# EAGLE library part 74LS14 (library sj_ic)
74LS14 Hex Schmitt-Trigger Inverters
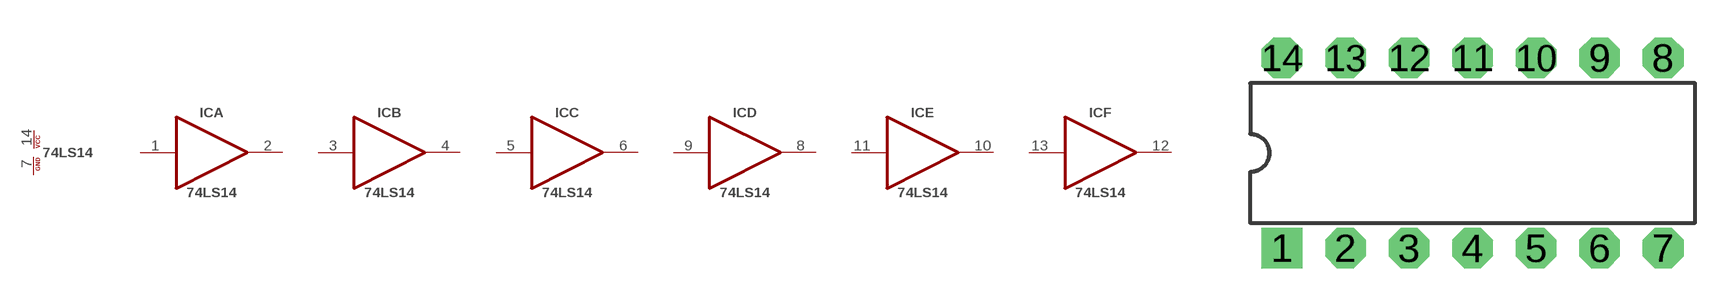
[diagram p10: symbol with the pads of DIP14; footprint DIP14]

Designator prefix IC; gates P=POWER A=GATE C=GATE E=GATE B=GATE D=GATE F=GATE

## 74LS14  [DIP14]
1  A:I
2  A:O
3  B:I
4  B:O
5  C:I
6  C:O
7  P:GND  pwr
8  D:O
9  D:I
10  E:O
11  E:I
12  F:O
13  F:I
14  P:VCC  pwr

## Footprint DIP14 (pad centres in mm)
14-pin Dual In Line Package
drill 0.813 pad 1.626 square: 1 -7.62,-3.81
drill 0.813 pad 1.626 octagon: 2 -5.08,-3.81; 3 -2.54,-3.81; 4 0,-3.81; 5 2.54,-3.81; 6 5.08,-3.81; 7 7.62,-3.81; 8 7.62,3.81; 9 5.08,3.81; 10 2.54,3.81; 11 0,3.81; 12 -2.54,3.81; 13 -5.08,3.81; 14 -7.62,3.81